# Altium schematic symbol library AD73322.Schlib: 1 symbol
Pins are listed as number, name and electrical type; pins without a type are passive.

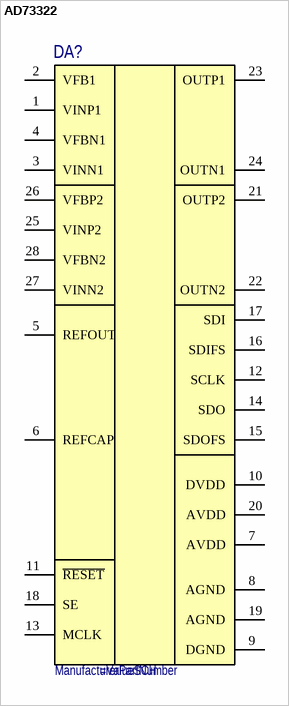
[diagram p0: symbol AD73322]

## AD73322
designator DA?
ManufacturerPartNumber: ManufacturerPartNumber
pins: 1 VINP1, 2 VFB1, 3 VINN1, 4 VFBN1, 5 REFOUT, 6 REFCAP, 7 AVDD, 8 AGND, 9 DGND, 10 DVDD, 11 ~{RESET}, 12 SCLK, 13 MCLK, 14 SDO, 15 SDOFS, 16 SDIFS, 17 SDI, 18 SE, 19 AGND, 20 AVDD, 21 OUTP2, 22 OUTN2, 23 OUTP1, 24 OUTN1, 25 VINP2, 26 VFBP2, 27 VINN2, 28 VFBN2